# EAGLE library part IC_NJM2580 (library akita)
NJM, 3ch Video Amp
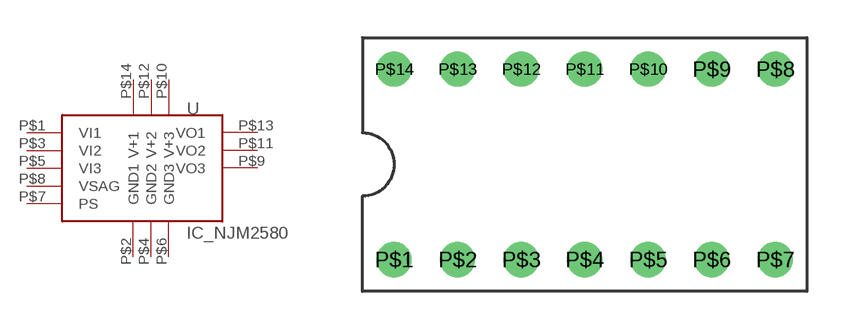
[diagram p151: symbol with the pads of DIP14; footprint DIP14]

Designator prefix U

## IC_NJM2580  [DIP14]
P$1  VI1
P$2  GND1
P$3  VI2
P$4  GND2
P$5  VI3
P$6  GND3
P$7  PS
P$8  VSAG
P$9  VO3
P$10  V+3
P$11  VO2
P$12  V+2
P$13  VO1
P$14  V+1

## Footprint DIP14 (pad centres in mm)
drill 0.9: P$1 -7.62,-3.81; P$2 -5.08,-3.81; P$3 -2.54,-3.81; P$4 0,-3.81; P$5 2.54,-3.81; P$6 5.08,-3.81; P$7 7.62,-3.81; P$8 7.62,3.81; P$9 5.08,3.81; P$10 2.54,3.81; P$11 0,3.81; P$12 -2.54,3.81; P$13 -5.08,3.81; P$14 -7.62,3.81